# EAGLE library part LMX9838SBX/NOPB (library LMX9838SBX:NOPB)
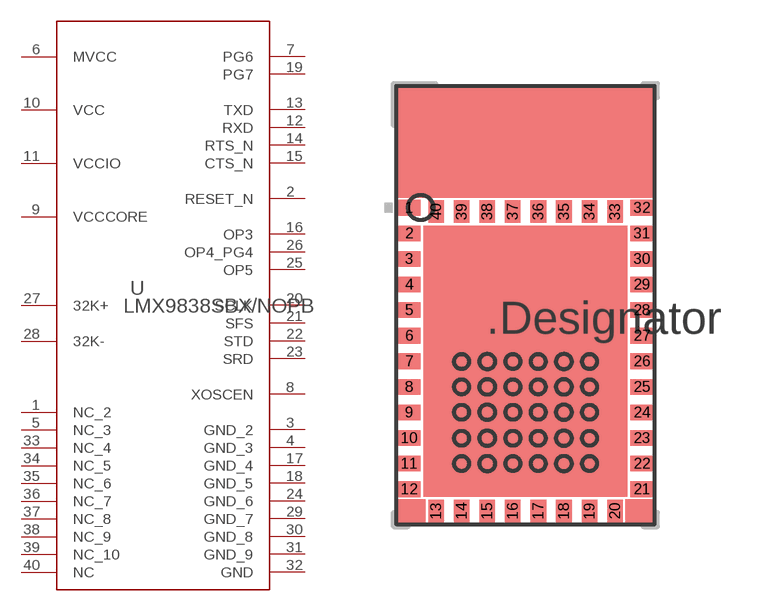
[diagram p0: symbol with the pads of NAW0070A; footprint NAW0070A]

Designator prefix U

## LMX9838SBX/NOPB (ALTERNATEPARTNUMBER: LMX9838SB/NOPB; APPLICATION_BUILDNUMBER: *; COMPTYPE: IC; MANUFACTURER: Texas Instruments; MOUNTTYPE: SMT; PACKAGEREFERENCE: NAW0070A; PARTNUMBER: LMX9838SBX/NOPB; PIN_COUNT: 40; REFDES: RefDes; ROHS: Y; TYPE: TYPE; VALUE: Value)  [NAW0070A]
1  NC_2  pas
2  RESET_N  in
3  GND_2  pwr
4  GND_3  pwr
5  NC_3  pas
6  MVCC  pwr
7  PG6
8  XOSCEN  out
9  VCCCORE  pwr
10  VCC  pwr
11  VCCIO  pwr
12  RXD  in
13  TXD  out
14  RTS_N  out
15  CTS_N  in
16  OP3  in
17  GND_4  pwr
18  GND_5  pwr
19  PG7
20  SCLK
21  SFS
22  STD  out
23  SRD  in
24  GND_6  pwr
25  OP5
26  OP4_PG4
27  32K+  in
28  32K-  out
29  GND_7  pwr
30  GND_8  pwr
31  GND_9  pwr
32  GND  pwr
33  NC_4  pas
34  NC_5  pas
35  NC_6  pas
36  NC_7  pas
37  NC_8  pas
38  NC_9  pas
39  NC_10  pas
40  NC  pas

## Footprint NAW0070A (pad centres in mm)
smd 0.889 x 0.61: 1 -4.55,3.8; 2 -4.55,2.8; 3 -4.55,1.8; 4 -4.55,0.8; 5 -4.55,-0.2; 6 -4.55,-1.2; 7 -4.55,-2.2; 8 -4.55,-3.2; 9 -4.55,-4.2; 10 -4.55,-5.2; 11 -4.55,-6.2; 12 -4.55,-7.2; 21 4.55,-7.2; 22 4.55,-6.2; 23 4.55,-5.2; 24 4.55,-4.2; 25 4.55,-3.2; 26 4.55,-2.2; 27 4.55,-1.2; 28 4.55,-0.2; 29 4.55,0.8; 30 4.55,1.8; 31 4.55,2.8; 32 4.55,3.8
smd 0.61 x 0.889: 13 -3.5,-8.05; 14 -2.5,-8.05; 15 -1.5,-8.05; 16 -0.5,-8.05; 17 0.5,-8.05; 18 1.5,-8.05; 19 2.5,-8.05; 20 3.5,-8.05; 33 3.5,3.65; 34 2.5,3.65; 35 1.5,3.65; 36 0.5,3.65; 37 -0.5,3.65; 38 -1.5,3.65; 39 -2.5,3.65; 40 -3.5,3.65